# EAGLE library part BLUESMIRF (library ControlBoard)
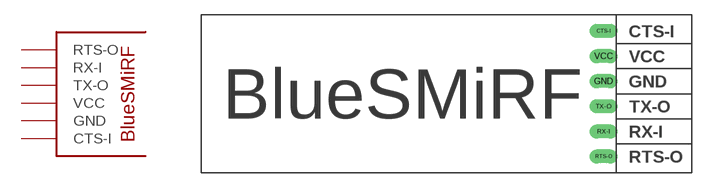
[diagram p5: symbol with the pads of BLUESMIRF; footprint BLUESMIRF]

Designator prefix -

## BLUESMIRF  [BLUESMIRF]
CTS-I  CTS-I
GND  GND
RTS-O  RTS-O
RX-I  RX-I
TX-O  TX-O
VCC  VCC

## Footprint BLUESMIRF (pad centres in mm)
drill 0.914 long: CTS-I 40.64,14.351; GND 40.64,9.271; RTS-O 40.64,1.651; RX-I 40.64,4.191; TX-O 40.64,6.731; VCC 40.64,11.811